# Altium schematic symbol library elisa.SchLib: 34 symbols (part 2 of 2)
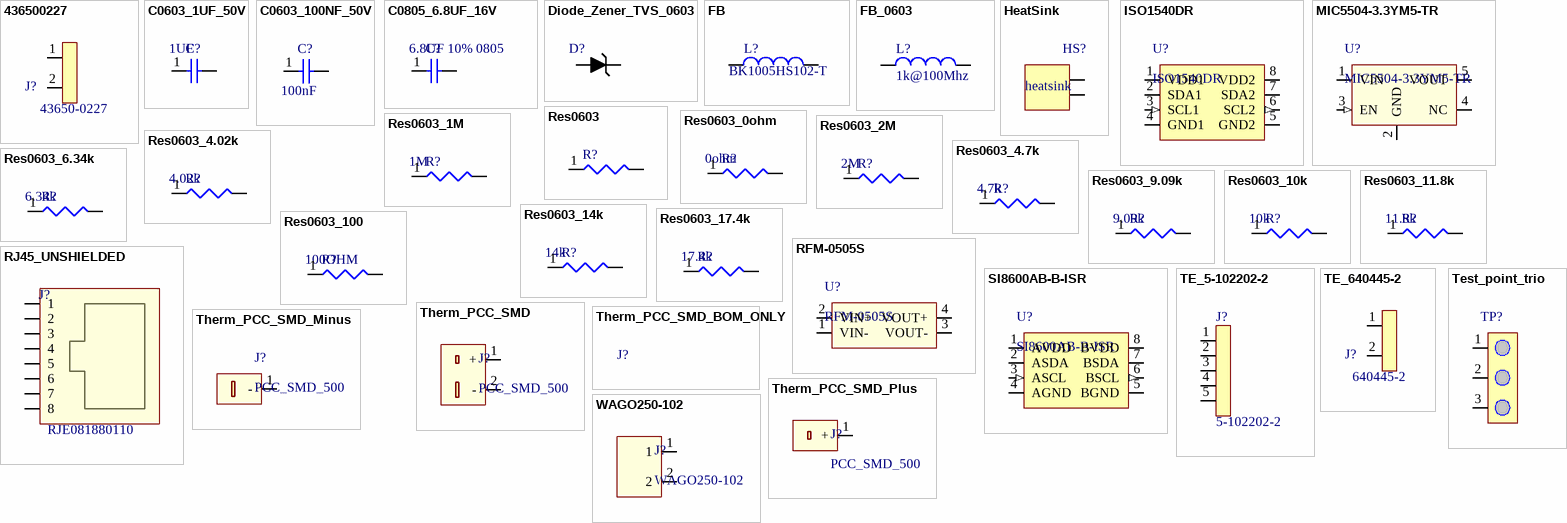
[diagram p1: symbols 436500227 to WAGO250-102]

## SI8600AB-B-ISR
designator U?
Bidirectional I2C Isolators with Unidirectional Digital Channels 8-Pin SOIC T/R; Manufacturer 1: Silicon Labs; Number of Channels: 2; Propagation Delay: 44ns; Min Supply Voltage: 3V; Max Supply Voltage: 5.5V; Max Power Dissipation: 220mW; Isolated Power: No; Operating Supply Current: 5.4mA; Mount: Surface Mount; Case/Package: SOIC; Contact Plating: Tin,Matte; Min Operating Temperature: -40°C; Max Operating Temperature: 125°C; Package Quantity: 2500; Packaging: Tape and Reel; Channel Type: Bidirectional; Polarity: Bidirectional; ComponentLink1URL: https://datasheet.ciiva.com/29659/si860x-29659238.pdf?src-supplier=Digi-Key; ComponentLink1Description: https://datasheet.ciiva.com/29659/si860x-29659238.pdf?src-supplier=Digi-Key; Supplier 1: Digi-Key; Supplier Part Number 1: 336-4773-1-ND; Manufacturer Part Number 1: Si8600AB-B-ISR; RoHS: Yes; Stock 1: 1185; Pricing 1: 1=3.33000, 25=3.20840, 100=3.08490 (USD)
footprint SOIC_8_N
pins: 1 AVDD (power), 2 ASDA (io), 3 ASCL (in), 4 AGND (power), 5 BGND (power), 6 BSCL (out), 7 BSDA (io), 8 BVDD (power)

## TE_5-102202-2
designator J?  Manufacturer Part Number 1: 5-102202-2  (hidden comment: *)
CONN HEADER VERT 5POS 2.54MM; Manufacturer 1: TE Connectivity; Number of Contacts: 5; Connector Type: Plug,Header,Pin; Current Rating: 3A; Board Standoff: Yes (With); Mating Connector Lock: No (Without); PCB Mount Retention: Without; PCB Mounting Orientation: Vertical; Insulation Resistance: 5GR; Gender: Male; High Speed Serial Data Connector: No; Contact Post Length: 0.13inch; PCB Thickness: 1.397mm; Approvals: CSA; Mount: Through Hole; Color: Black; Contact Plating: Gold,Tin,Matte; Contact Material: Brass; Housing Color: Black; Housing Material: Thermoplastic; Contact Shape: Square; Min Operating Temperature: -65°C; Max Operating Temperature: 105°C; Number of Rows: 1; Packaging: Rail/Tube; Termination: Through Hole; Package Quantity: 34; Contact Gender: Male; Number of Positions: 5; Orientation: Straight; Series: AMPMODU MOD II; Contact Type: Male Pin; Mating Alignment: Yes (With); Contact Current Rating: 3A; Contact Protection: Yes (With); Gasket: No (Without); High Temperature Housing: No; Keyed: No; Selectively Loaded: No (Without); Stabilizers: No (Without); Strain Relief: No (Without); Length: 15.75mm; Pitch: 2.54mm; Row Spacing: 2.54mm; Contact Mating Length: 6.1mm; Depth: 5.82mm; Shrouded End Dimension: 1.778mm; Flammability Rating: UL94 V-0; ELV: Compliant; Lead Free: Lead Free; RoHS Compliant: Yes; REACH SVHC: Unknown; ComponentLink1URL: https://datasheet.ciiva.com/710/eng-cd-102202-p2-710224.pdf?src-supplier=Digi-Key; ComponentLink1Description: https://datasheet.ciiva.com/710/eng-cd-102202-p2-710224.pdf?src-supplier=Digi-Key; ComponentLink2URL: https://datasheet.ciiva.com/16318/eng-cs-1307819-section-5-0908-16318861.pdf?src-supplier=Future+Electronics; ComponentLink2Description: https://datasheet.ciiva.com/16318/eng-cs-1307819-section-5-0908-16318861.pdf?src-supplier=Future+Electronics; ComponentLink3URL: https://datasheet.ciiva.com/30493/0900766b80f9a4ee-30493191.pdf?src-supplier=RSComponents; ComponentLink3Description: https://datasheet.ciiva.com/30493/0900766b80f9a4ee-30493191.pdf?src-supplier=RSComponents; ComponentLink4URL: https://datasheet.ciiva.com/19463/1972389-19463471.pdf?src-supplier=Jameco; ComponentLink4Description: https://datasheet.ciiva.com/19463/1972389-19463471.pdf?src-supplier=Jameco; ComponentLink5URL: https://datasheet.ciiva.com/3118/eng-cs-1307819-section-5-0908-3118232.pdf?src-supplier=Avnet; ComponentLink5Description: https://datasheet.ciiva.com/3118/eng-cs-1307819-section-5-0908-3118232.pdf?src-supplier=Avnet; ComponentLink6URL: https://datasheet.ciiva.com/30173/eng-ds-1307819-ampmodu-0811-30173709.pdf?src-supplier=Onlinecomponents.com; ComponentLink6Description: https://datasheet.ciiva.com/30173/eng-ds-1307819-ampmodu-0811-30173709.pdf?src-supplier=Onlinecomponents.com; ComponentLink7URL: https://datasheet.ciiva.com/22644/1498835-22644665.pdf?src-supplier=Element14; ComponentLink7Description: https://datasheet.ciiva.com/22644/1498835-22644665.pdf?src-supplier=Element14; ComponentLink8URL: https://datasheet.ciiva.com/14644/70085245-14644039.pdf?src-supplier=Allied+Electronics; ComponentLink8Description: https://datasheet.ciiva.com/14644/70085245-14644039.pdf?src-supplier=Allied+Electronics; ComponentLink9URL: https://datasheet.ciiva.com/16657/eng-cs-1307819-section-5-0908-16657942.pdf?src-supplier=Avnet+Europe; ComponentLink9Description: https://datasheet.ciiva.com/16657/eng-cs-1307819-section-5-0908-16657942.pdf?src-supplier=Avnet+Europe; Pricing 1: 1=2.06000, 10=1.86700, 100=1.60020, 500=1.33352, 1000=1.14302, 5000=1.01348, 10000=0.99062 (USD); Stock 1: 2401; Category: Connectors; RoHS: Yes; Supplier Part Number 1: A32552-ND; Supplier 1: Digi-Key
footprint header_5_male
pins: 1, 2, 3, 4, 5

## TE_640445-2
designator J?  Manufacturer Part Number 1: 640445-2  (hidden comment: *)
CONN HEADER VERT 2POS 3.96MM; Manufacturer 1: AMP - TE CONNECTIVITY; ComponentLink1URL: http://www.farnell.com/datasheets/2007275.pdf?src-supplier=Farnell; ComponentLink1Description: http://www.farnell.com/datasheets/2007275.pdf?src-supplier=Farnell; ComponentLink2URL: https://www.te.com/commerce/DocumentDelivery/DDEController?Action=srchrtrv&DocNm=640445&DocType=Customer+Drawing&DocLang=English&src-supplier=Digi-Key; ComponentLink2Description: https://www.te.com/commerce/DocumentDelivery/DDEController?Action=srchrtrv&DocNm=640445&DocType=Customer+Drawing&DocLang=English&src-supplier=Digi-Key; ComponentLink3URL: http://catalog.tycoelectronics.com/TE/bin/TE.Connect?C=1&PN=640445-2&M=BYPN&LG=1&I=13&src-supplier=Newark; ComponentLink3Description: http://catalog.tycoelectronics.com/TE/bin/TE.Connect?C=1&PN=640445-2&M=BYPN&LG=1&I=13&src-supplier=Newark; Supplier 1: Digi-Key; Supplier Part Number 1: A1971-ND; Stock 1: 17261; Pricing 1: 1=0.13000, 10=0.12600, 100=0.07800, 500=0.06458, 1000=0.05652, 5000=0.04844, 10000=0.04710 (USD); RoHS: No; Parameter 1: *
footprint TE_640445-2 (Footprint not found)
pins: 1, 2

## Test_point_trio
designator TP?  (value not drawn)  (no BOM)
footprint TestPointTrio
pins: 1, 2, 3

## Therm_PCC_SMD
designator J?, comment PCC_SMD_500
THERMOCOUPLE CONNECTOR, RTD, RECEPTACLE; Manufacturer: Omega; Manufacturer Part Number: PCC-SMD-1000; Manufacturer Part Number 2: PCC-SMD-500; Manufacturer Part Number 3: PCC-SMD-20; System: Connector
footprint PCC_SMD (Thermocouple connector)
pins: 1 +, 2 -

## Therm_PCC_SMD_BOM_ONLY
designator J?, comment PCC_SMD_1000  (value not drawn)  (mechanical)
THERMOCOUPLE CONNECTOR, RTD, RECEPTACLE; Manufacturer: Omega; Manufacturer Part Number: PCC-SMD-1000; Manufacturer Part Number 2: PCC-SMD-500; Manufacturer Part Number 3: PCC-SMD-20; System: Connector

## Therm_PCC_SMD_Minus
designator J?, comment PCC_SMD_500
THERMOCOUPLE CONNECTOR, RTD, RECEPTACLE; Manufacturer: Omega; Manufacturer Part Number: PCC-SMD-1000; Manufacturer Part Number 2: PCC-SMD-1000; Manufacturer Part Number 3: PCC-SMD-1000; System: Connector
footprint PCC_SMD (Thermocouple connector)
pins: 1 -

## Therm_PCC_SMD_Plus
designator J?, comment PCC_SMD_500
THERMOCOUPLE CONNECTOR, RTD, RECEPTACLE; Manufacturer: Omega; Manufacturer Part Number: PCC-SMD-1000; Manufacturer Part Number 2: PCC-SMD-1000; Manufacturer Part Number 3: PCC-SMD-1000; System: Connector
footprint PCC_SMD (Thermocouple connector)
pins: 1 +

## WAGO250-102
designator J?
PCB Terminal Block Pitch 3.5 mm 45° 2P, 250-102, Wago; Number of Contacts: 2; Pitch: 3.5mm; Wire Gauge (Max): 16AWG; Wire Gauge (Min): 24AWG; Stripping Length: -8mm; Housing Color: Grey; Color: Grey; Housing Material: Nylon; Termination: Solder; Number of Poles: 2; Lead Free: Lead Free; Flammability Rating: UL94 V-0; ComponentLink1URL: https://datasheet.ciiva.com/16309/250-102-16309234.pdf?src-supplier=Future+Electronics; ComponentLink1Description: https://datasheet.ciiva.com/16309/250-102-16309234.pdf?src-supplier=Future+Electronics; ComponentLink2URL: https://datasheet.ciiva.com/14149/250-102-eng-tds-14149593.pdf?src-supplier=Distrelec; ComponentLink2Description: https://datasheet.ciiva.com/14149/250-102-eng-tds-14149593.pdf?src-supplier=Distrelec; ComponentLink3URL: https://datasheet.ciiva.com/29375/743297-da-01-de-lp-klemmenleiste-250-102-560-st-29375265.pdf?src-supplier=Conrad; ComponentLink3Description: https://datasheet.ciiva.com/29375/743297-da-01-de-lp-klemmenleiste-250-102-560-st-29375265.pdf?src-supplier=Conrad; Supplier 1: Future Electronics; Manufacturer 1: WAGO; Supplier Part Number 1: 250-102-TRAY; Manufacturer Part Number 1: 250-102; Category: Terminal Blocks; RoHS: Yes; Stock 1: 3567; Pricing 1: 1=0.91500, 100=0.80500, 300=0.78000, 1000=0.75500, 3000=0.73000 (USD)
footprint Wago-250-102
pins: 1, 2